# Altium schematic symbol library 74HC00D,653.SchLib: 1 symbol
Pins are listed as number, name and electrical type; pins without a type are passive.

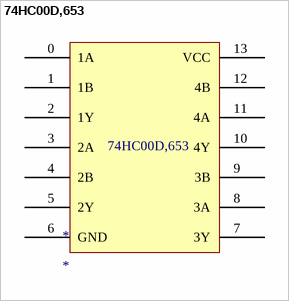
[diagram p0: symbol 74HC00D,653]

## 74HC00D,653
designator *
footprint 74HC00D,653
pins: 0 1A, 1 1B, 2 1Y, 3 2A, 4 2B, 5 2Y, 6 GND, 7 3Y, 8 3A, 9 3B, 10 4Y, 11 4A, 12 4B, 13 VCC